# Altium schematic symbol library SumWkshop.SchLib: 2 symbols
Pins are listed as number, name and electrical type; pins without a type are passive.

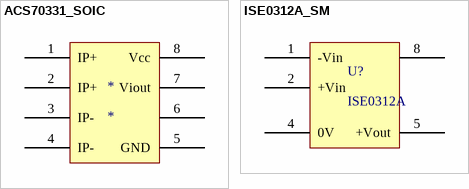
[diagram p0: symbols ACS70331_SOIC to ISE0312A_SM]

## ACS70331_SOIC
designator *
footprint ACS70331
pins: 1 IP+, 2 IP+, 3 IP-, 4 IP-, 5 GND, 6, 7 Viout, 8 Vcc

## ISE0312A_SM
designator U?, comment ISE0312A
3V-12V DC DC converter
footprint PCBComponent_1
pins: 1 -Vin, 2 +Vin, 4 0V, 5 +Vout, 8